# Altium integrated library Microchip Power Mgt MOSFET Driver.IntLib: 464 symbols (part 12 of 12)
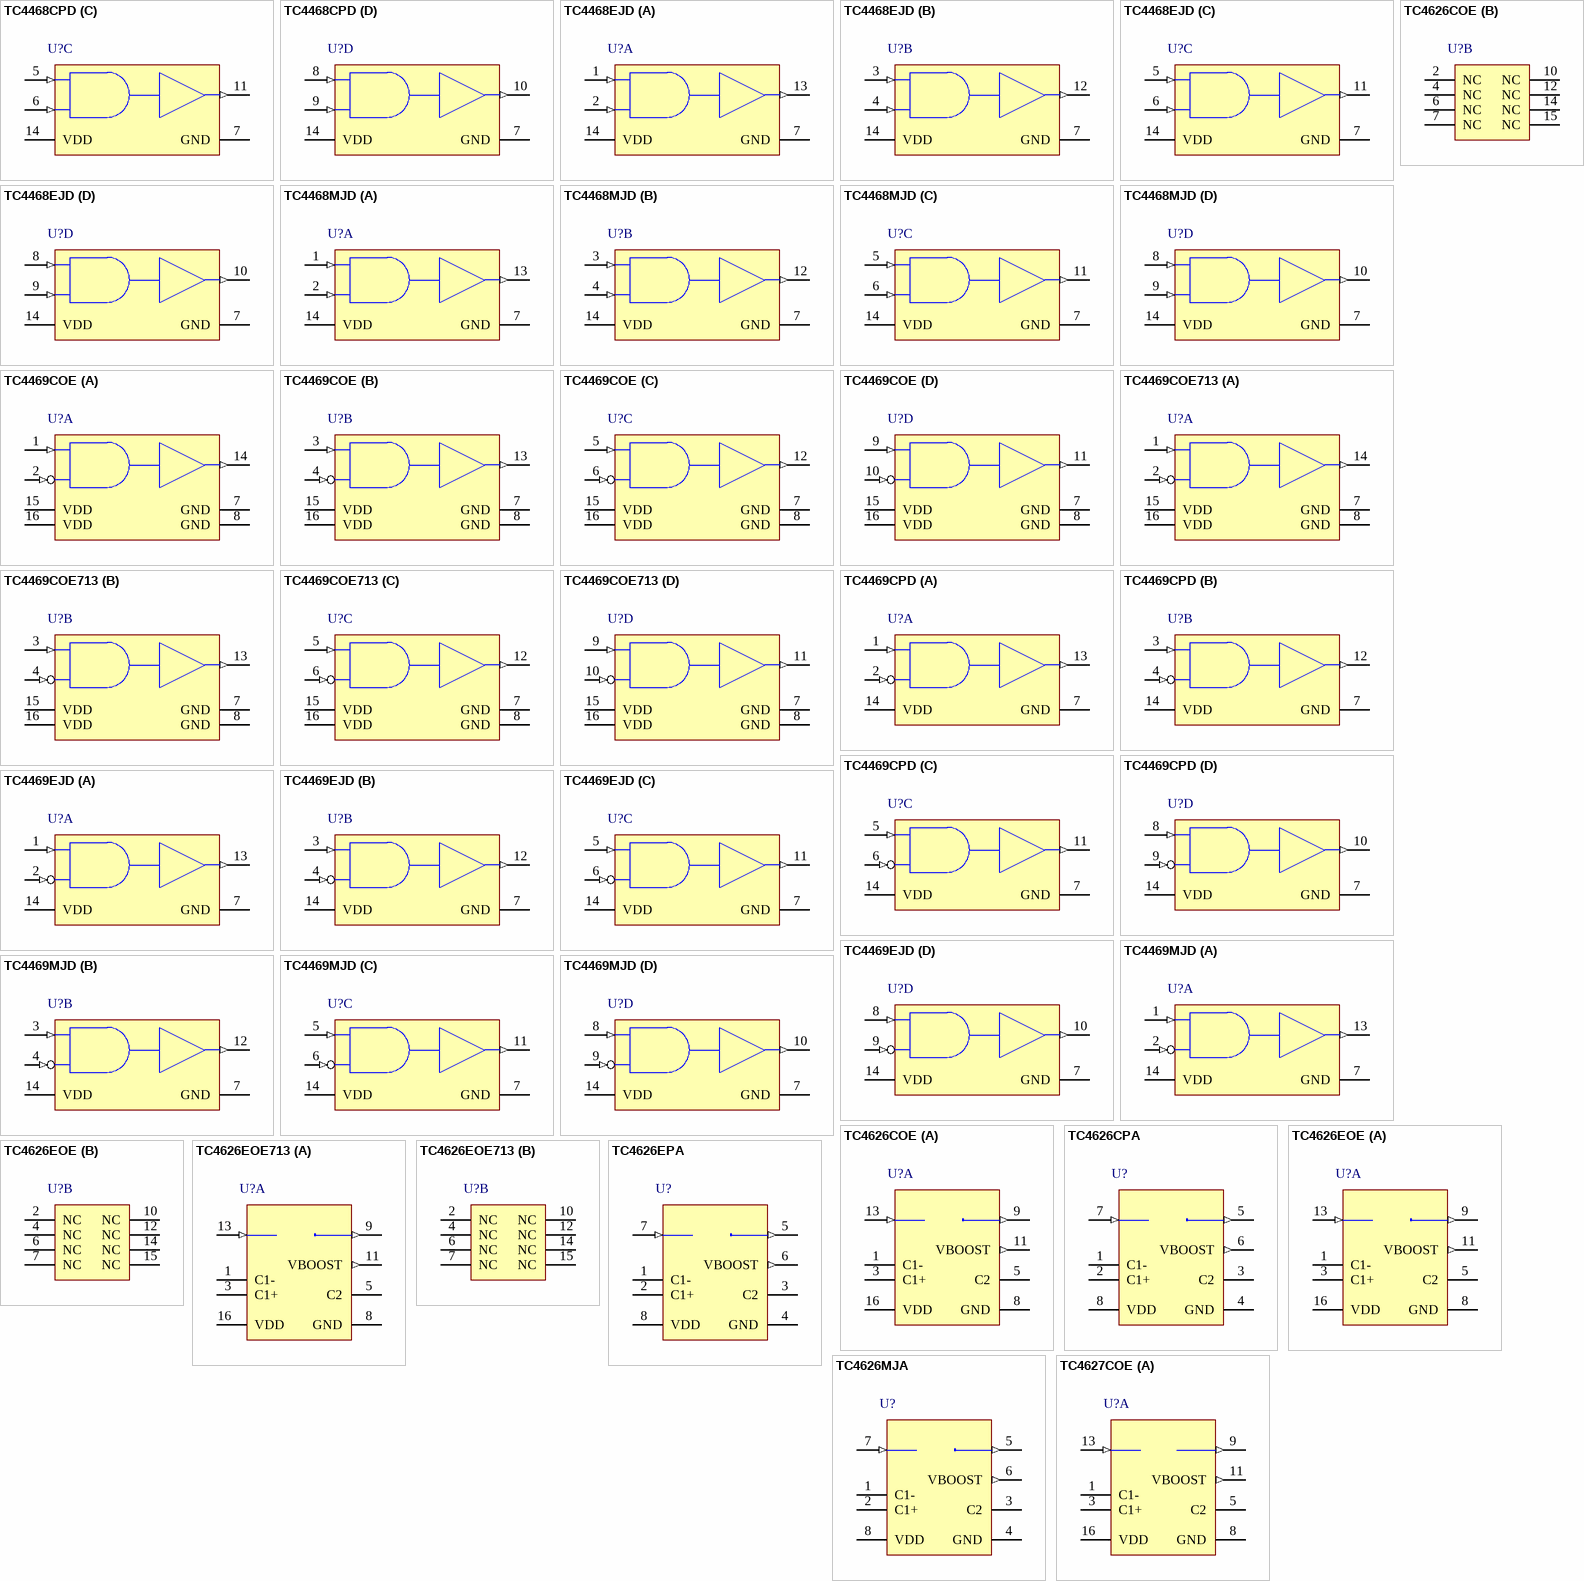
[diagram p36: symbols TC4468CPD to TC4627COE]

## TC4469COE713
designator U?
1.2A Quad MOSFET Driver, AND/INV, Commercial Temperature, Tape and Reel; Published: 29-Jan-2009; LatestRevisionDate: 01-Mar-2010; LatestRevisionNote: Sch Layout changed.; DatasheetVersion: revB, Feb-2003; PackageVersion: revBB, Aug-2009; PackageReference: SOIC-OE16; Publisher: Altium Limited; PackageDescription: 16-Lead Plastic Small Outline (OE) - Wide 7.50mm Body [SOIC]; Supplier 1: Digi-Key; Supplier Part Number 1: TC4469COE713TR-ND; Supplier 2: Digi-Key; Supplier Part Number 2: TC4469COE713CT-ND; Code_JEDEC: MS-013-AA; Code_IPC: SOIC127P1030-16; ComponentLink1Description: Datasheet; ComponentLink1URL: http://ww1.microchip.com/downloads/en/DeviceDoc/21425b.pdf; ComponentLink2Description: Packaging Specification; ComponentLink2URL: http://www.microchip.com/stellent/groups/techpub_sg/documents/packagingspec/en012702.pdf; ComponentLink3Description: Microchip.com Home; ComponentLink3URL: http://www.microchip.com/
footprint SOIC-OE16_N (SOIC, 16-Leads, Body 10.3x7.5mm, Pitch 1.27mm, IPC Medium Density)
footprint SOIC-OE16_L (SOIC, 16-Leads, Body 10.3x7.5mm, Pitch 1.27mm, IPC High Density)
footprint SOIC-OE16_M (SOIC, 16-Leads, Body 10.3x7.5mm, Pitch 1.27mm, IPC Low Density)
simulation model TC4469_I2D_A (SUBCKT)
pins on every part: 7 GND (power), 8 GND (power), 15 VDD (power), 16 VDD (power)
part A pins: 1 1A (in), 2 1B (in), 14 1Y (out)
part B pins: 3 2A (in), 4 2B (in), 13 2Y (out)
part C pins: 5 3A (in), 6 3B (in), 12 3Y (out)
part D pins: 9 4A (in), 10 4B (in), 11 4Y (out)

## TC4469CPD
designator U?
1.2A Quad MOSFET Driver, AND/INV, Commercial Temperature; Published: 29-Jan-2009; LatestRevisionDate: 01-Mar-2010; LatestRevisionNote: Sch Layout changed.; DatasheetVersion: revB, Feb-2003; PackageVersion: revBB, Aug-2009; PackageReference: PDIP300-PD14; Publisher: Altium Limited; PackageDescription: 14-Lead Plastic Dual In-Line (PD) - 300 mil Body [PDIP]; Supplier 1: Digi-Key; Supplier Part Number 1: TC4469CPD-ND; Supplier 2: Farnell; Supplier Part Number 2: 1439739; Code_JEDEC: MS-001-AA; ComponentLink1Description: Datasheet; ComponentLink1URL: http://ww1.microchip.com/downloads/en/DeviceDoc/21425b.pdf; ComponentLink2Description: Packaging Specification; ComponentLink2URL: http://www.microchip.com/stellent/groups/techpub_sg/documents/packagingspec/en012702.pdf; ComponentLink3Description: Microchip.com Home; ComponentLink3URL: http://www.microchip.com/
footprint PDIP300-PD14 (DIP, 14-Leads, Row Spacing 7.62mm, Pitch 2.54mm, Body 19.2x6.6mm)
simulation model TC4469_I2D_A (SUBCKT)
pins on every part: 7 GND (power), 14 VDD (power)
part A pins: 1 1A (in), 2 1B (in), 13 1Y (out)
part B pins: 3 2A (in), 4 2B (in), 12 2Y (out)
part C pins: 5 3A (in), 6 3B (in), 11 3Y (out)
part D pins: 8 4A (in), 9 4B (in), 10 4Y (out)

## TC4469EJD
designator U?
1.2A Quad MOSFET Driver, AND/INV, Industrial Temperature; Published: 29-Jan-2009; LatestRevisionDate: 01-Mar-2010; LatestRevisionNote: Sch Layout changed.; DatasheetVersion: revB, Feb-2003; PackageVersion: revBB, Aug-2009; PackageReference: CERDIP300-JD14; Publisher: Altium Limited; PackageDescription: 14-Lead Ceramic Dual In-Line (JD) - 300mil Body [CERDIP]; Supplier 1: Digi-Key; Supplier Part Number 1: TC4469EJD-ND; ComponentLink1Description: Datasheet; ComponentLink1URL: http://ww1.microchip.com/downloads/en/DeviceDoc/21425b.pdf; ComponentLink2Description: Packaging Specification; ComponentLink2URL: http://www.microchip.com/stellent/groups/techpub_sg/documents/packagingspec/en012702.pdf; ComponentLink3Description: Microchip.com Home; ComponentLink3URL: http://www.microchip.com/
footprint CERDIP300-JD14 (DIP, 14-Leads, Row Spacing 7.62mm, Pitch 2.54mm, Body 19.3x6.7mm)
simulation model TC4469_I2D_A (SUBCKT)
pins on every part: 7 GND (power), 14 VDD (power)
part A pins: 1 1A (in), 2 1B (in), 13 1Y (out)
part B pins: 3 2A (in), 4 2B (in), 12 2Y (out)
part C pins: 5 3A (in), 6 3B (in), 11 3Y (out)
part D pins: 8 4A (in), 9 4B (in), 10 4Y (out)

## TC4469MJD
designator U?
1.2A Quad MOSFET Driver, AND/INV, -55C to +125C Temperature; Published: 29-Jan-2009; LatestRevisionDate: 01-Mar-2010; LatestRevisionNote: Sch Layout changed.; DatasheetVersion: revB, Feb-2003; PackageVersion: revBB, Aug-2009; PackageReference: CERDIP300-JD14; Publisher: Altium Limited; PackageDescription: 14-Lead Ceramic Dual In-Line (JD) - 300mil Body [CERDIP]; Supplier 1: Digi-Key; Supplier Part Number 1: TC4469MJD-ND; ComponentLink1Description: Datasheet; ComponentLink1URL: http://ww1.microchip.com/downloads/en/DeviceDoc/21425b.pdf; ComponentLink2Description: Packaging Specification; ComponentLink2URL: http://www.microchip.com/stellent/groups/techpub_sg/documents/packagingspec/en012702.pdf; ComponentLink3Description: Microchip.com Home; ComponentLink3URL: http://www.microchip.com/
footprint CERDIP300-JD14 (DIP, 14-Leads, Row Spacing 7.62mm, Pitch 2.54mm, Body 19.3x6.7mm)
simulation model TC4469_I2D_A (SUBCKT)
pins on every part: 7 GND (power), 14 VDD (power)
part A pins: 1 1A (in), 2 1B (in), 13 1Y (out)
part B pins: 3 2A (in), 4 2B (in), 12 2Y (out)
part C pins: 5 3A (in), 6 3B (in), 11 3Y (out)
part D pins: 8 4A (in), 9 4B (in), 10 4Y (out)

## TC4626COE
designator U?
Power CMOS Drivers With Voltage Tripler, Inverting, Commercial Temperature; Published: 29-Jan-2009; DatasheetVersion: Feb-2003; PackageVersion: revBB, Aug-2009; PackageReference: SOIC-OE16; Publisher: Altium Limited; PackageDescription: 16-Lead Plastic Small Outline (OE) - Wide 7.50mm Body [SOIC]; Supplier 1: Digi-Key; Supplier Part Number 1: TC4626COE-ND; Code_JEDEC: MS-013-AA; Code_IPC: SOIC127P1030-16; ComponentLink1Description: Datasheet; ComponentLink1URL: http://ww1.microchip.com/downloads/en/DeviceDoc/21426b.pdf; ComponentLink2Description: Packaging Specification; ComponentLink2URL: http://www.microchip.com/stellent/groups/techpub_sg/documents/packagingspec/en012702.pdf; ComponentLink3Description: Microchip.com Home; ComponentLink3URL: http://www.microchip.com/
footprint SOIC-OE16_N (SOIC, 16-Leads, Body 10.3x7.5mm, Pitch 1.27mm, IPC Medium Density)
footprint SOIC-OE16_L (SOIC, 16-Leads, Body 10.3x7.5mm, Pitch 1.27mm, IPC High Density)
footprint SOIC-OE16_M (SOIC, 16-Leads, Body 10.3x7.5mm, Pitch 1.27mm, IPC Low Density)
part A pins: 1 C1-, 3 C1+, 5 C2, 8 GND (power), 9 ~{OUT} (out), 11 VBOOST (out), 13 IN (in), 16 VDD (power)
part B pins: 2 NC, 4 NC, 6 NC, 7 NC, 10 NC, 12 NC, 14 NC, 15 NC

## TC4626CPA
designator U?
Power CMOS Drivers With Voltage Tripler, Inverting, Commercial Temperature; Published: 29-Jan-2009; DatasheetVersion: Feb-2003; PackageVersion: revBB, Aug-2009; PackageReference: PDIP300-PA8; Publisher: Altium Limited; PackageDescription: 8-Lead Plastic Dual In-Line (PA) - 300 mil Body [PDIP]; Supplier 1: Digi-Key; Supplier Part Number 1: TC4626CPA-ND; Code_JEDEC: MS-001-BA; ComponentLink1Description: Datasheet; ComponentLink1URL: http://ww1.microchip.com/downloads/en/DeviceDoc/21426b.pdf; ComponentLink2Description: Packaging Specification; ComponentLink2URL: http://www.microchip.com/stellent/groups/techpub_sg/documents/packagingspec/en012702.pdf; ComponentLink3Description: Microchip.com Home; ComponentLink3URL: http://www.microchip.com/
footprint PDIP300-PA8 (DIP, 8-Leads, Row Spacing 7.62mm, Pitch 2.54mm, Body 9.5x6.6mm)
pins: 1 C1-, 2 C1+, 3 C2, 4 GND (power), 5 ~{OUT} (out), 6 VBOOST (out), 7 IN (in), 8 VDD (power)

## TC4626EOE
designator U?
Power CMOS Drivers With Voltage Tripler, Inverting, Industrial Temperature; Published: 29-Jan-2009; DatasheetVersion: Feb-2003; PackageVersion: revBB, Aug-2009; PackageReference: SOIC-OE16; Publisher: Altium Limited; PackageDescription: 16-Lead Plastic Small Outline (OE) - Wide 7.50mm Body [SOIC]; Supplier 1: Digi-Key; Supplier Part Number 1: TC4626EOE-ND; Code_JEDEC: MS-013-AA; Code_IPC: SOIC127P1030-16; ComponentLink1Description: Datasheet; ComponentLink1URL: http://ww1.microchip.com/downloads/en/DeviceDoc/21426b.pdf; ComponentLink2Description: Packaging Specification; ComponentLink2URL: http://www.microchip.com/stellent/groups/techpub_sg/documents/packagingspec/en012702.pdf; ComponentLink3Description: Microchip.com Home; ComponentLink3URL: http://www.microchip.com/
footprint SOIC-OE16_N (SOIC, 16-Leads, Body 10.3x7.5mm, Pitch 1.27mm, IPC Medium Density)
footprint SOIC-OE16_L (SOIC, 16-Leads, Body 10.3x7.5mm, Pitch 1.27mm, IPC High Density)
footprint SOIC-OE16_M (SOIC, 16-Leads, Body 10.3x7.5mm, Pitch 1.27mm, IPC Low Density)
part A pins: 1 C1-, 3 C1+, 5 C2, 8 GND (power), 9 ~{OUT} (out), 11 VBOOST (out), 13 IN (in), 16 VDD (power)
part B pins: 2 NC, 4 NC, 6 NC, 7 NC, 10 NC, 12 NC, 14 NC, 15 NC

## TC4626EOE713
designator U?
Power CMOS Drivers With Voltage Tripler, Inverting, Industrial Temperature, Tape and Reel; Published: 2-Dec-2009; DatasheetVersion: Feb-2003; PackageVersion: revBB, Aug-2009; PackageReference: SOIC-OE16; Publisher: Altium Limited; PackageDescription: 16-Lead Plastic Small Outline (OE) - Wide 7.50mm Body [SOIC]; Supplier 1: Digi-Key; Supplier Part Number 1: TC4626EOE713-ND; Code_JEDEC: MS-013-AA; Code_IPC: SOIC127P1030-16; ComponentLink1Description: Datasheet; ComponentLink1URL: http://ww1.microchip.com/downloads/en/DeviceDoc/21426b.pdf; ComponentLink2Description: Packaging Specification; ComponentLink2URL: http://www.microchip.com/stellent/groups/techpub_sg/documents/packagingspec/en012702.pdf; ComponentLink3Description: Microchip.com Home; ComponentLink3URL: http://www.microchip.com/
footprint SOIC-OE16_N (SOIC, 16-Leads, Body 10.3x7.5mm, Pitch 1.27mm, IPC Medium Density)
footprint SOIC-OE16_L (SOIC, 16-Leads, Body 10.3x7.5mm, Pitch 1.27mm, IPC High Density)
footprint SOIC-OE16_M (SOIC, 16-Leads, Body 10.3x7.5mm, Pitch 1.27mm, IPC Low Density)
part A pins: 1 C1-, 3 C1+, 5 C2, 8 GND (power), 9 ~{OUT} (out), 11 VBOOST (out), 13 IN (in), 16 VDD (power)
part B pins: 2 NC, 4 NC, 6 NC, 7 NC, 10 NC, 12 NC, 14 NC, 15 NC

## TC4626EPA
designator U?
Power CMOS Drivers With Voltage Tripler, Inverting, Industrial Temperature; Published: 29-Jan-2009; DatasheetVersion: Feb-2003; PackageVersion: revBB, Aug-2009; PackageReference: PDIP300-PA8; Publisher: Altium Limited; PackageDescription: 8-Lead Plastic Dual In-Line (PA) - 300 mil Body [PDIP]; Supplier 1: Digi-Key; Supplier Part Number 1: TC4626EPA-ND; Code_JEDEC: MS-001-BA; ComponentLink1Description: Datasheet; ComponentLink1URL: http://ww1.microchip.com/downloads/en/DeviceDoc/21426b.pdf; ComponentLink2Description: Packaging Specification; ComponentLink2URL: http://www.microchip.com/stellent/groups/techpub_sg/documents/packagingspec/en012702.pdf; ComponentLink3Description: Microchip.com Home; ComponentLink3URL: http://www.microchip.com/
footprint PDIP300-PA8 (DIP, 8-Leads, Row Spacing 7.62mm, Pitch 2.54mm, Body 9.5x6.6mm)
pins: 1 C1-, 2 C1+, 3 C2, 4 GND (power), 5 ~{OUT} (out), 6 VBOOST (out), 7 IN (in), 8 VDD (power)

## TC4626MJA
designator U?
Power CMOS Drivers With Voltage Tripler, Inverting, -55C to +125C Temperature; ComponentAvailability: Unknown. Contact manufacturer to determine status.; Published: 29-Jan-2009; DatasheetVersion: Feb-2003; PackageVersion: revBB, Aug-2009; PackageReference: CERDIP300-JA8; Publisher: Altium Limited; PackageDescription: 8-Lead Ceramic Dual In-Line (JA) - 300mil Body [CERDIP]; Supplier 1: Digi-Key; Supplier Part Number 1: TC4626MJA-ND; ComponentLink1Description: Datasheet; ComponentLink1URL: http://ww1.microchip.com/downloads/en/DeviceDoc/21426b.pdf; ComponentLink2Description: Packaging Specification; ComponentLink2URL: http://www.microchip.com/stellent/groups/techpub_sg/documents/packagingspec/en012702.pdf; ComponentLink3Description: Microchip.com Home; ComponentLink3URL: http://www.microchip.com/
footprint CERDIP300-JA8 (DIP, 8-Leads, Row Spacing 7.62mm, Pitch 2.54mm, Body 9.8x6.7mm)
pins: 1 C1-, 2 C1+, 3 C2, 4 GND (power), 5 ~{OUT} (out), 6 VBOOST (out), 7 IN (in), 8 VDD (power)

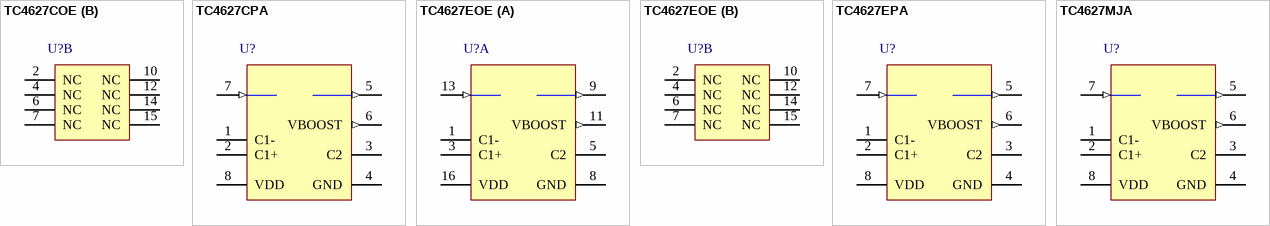
[diagram p25: symbols TC4627COE to TC4627MJA]

## TC4627COE
designator U?
Power CMOS Drivers With Voltage Tripler, Non Inverting, Commercial Temperature; Published: 29-Jan-2009; DatasheetVersion: Feb-2003; PackageVersion: revBB, Aug-2009; PackageReference: SOIC-OE16; Publisher: Altium Limited; PackageDescription: 16-Lead Plastic Small Outline (OE) - Wide 7.50mm Body [SOIC]; Supplier 1: Digi-Key; Supplier Part Number 1: TC4627COE-ND; Code_JEDEC: MS-013-AA; Code_IPC: SOIC127P1030-16; ComponentLink1Description: Datasheet; ComponentLink1URL: http://ww1.microchip.com/downloads/en/DeviceDoc/21426b.pdf; ComponentLink2Description: Packaging Specification; ComponentLink2URL: http://www.microchip.com/stellent/groups/techpub_sg/documents/packagingspec/en012702.pdf; ComponentLink3Description: Microchip.com Home; ComponentLink3URL: http://www.microchip.com/
footprint SOIC-OE16_N (SOIC, 16-Leads, Body 10.3x7.5mm, Pitch 1.27mm, IPC Medium Density)
footprint SOIC-OE16_L (SOIC, 16-Leads, Body 10.3x7.5mm, Pitch 1.27mm, IPC High Density)
footprint SOIC-OE16_M (SOIC, 16-Leads, Body 10.3x7.5mm, Pitch 1.27mm, IPC Low Density)
part A pins: 1 C1-, 3 C1+, 5 C2, 8 GND (power), 9 OUT (out), 11 VBOOST (out), 13 IN (in), 16 VDD (power)
part B pins: 2 NC, 4 NC, 6 NC, 7 NC, 10 NC, 12 NC, 14 NC, 15 NC

## TC4627CPA
designator U?
Power CMOS Drivers With Voltage Tripler, Non Inverting, Commercial Temperature; Published: 29-Jan-2009; DatasheetVersion: Feb-2003; PackageVersion: revBB, Aug-2009; PackageReference: PDIP300-PA8; Publisher: Altium Limited; PackageDescription: 8-Lead Plastic Dual In-Line (PA) - 300 mil Body [PDIP]; Supplier 1: Digi-Key; Supplier Part Number 1: TC4627CPA-ND; Code_JEDEC: MS-001-BA; ComponentLink1Description: Datasheet; ComponentLink1URL: http://ww1.microchip.com/downloads/en/DeviceDoc/21426b.pdf; ComponentLink2Description: Packaging Specification; ComponentLink2URL: http://www.microchip.com/stellent/groups/techpub_sg/documents/packagingspec/en012702.pdf; ComponentLink3Description: Microchip.com Home; ComponentLink3URL: http://www.microchip.com/
footprint PDIP300-PA8 (DIP, 8-Leads, Row Spacing 7.62mm, Pitch 2.54mm, Body 9.5x6.6mm)
pins: 1 C1-, 2 C1+, 3 C2, 4 GND (power), 5 OUT (out), 6 VBOOST (out), 7 IN (in), 8 VDD (power)

## TC4627EOE
designator U?
Power CMOS Drivers With Voltage Tripler, Non Inverting, Industrial Temperature; Published: 29-Jan-2009; DatasheetVersion: Feb-2003; PackageVersion: revBB, Aug-2009; PackageReference: SOIC-OE16; Publisher: Altium Limited; PackageDescription: 16-Lead Plastic Small Outline (OE) - Wide 7.50mm Body [SOIC]; Supplier 1: Digi-Key; Supplier Part Number 1: TC4627EOE-ND; Code_JEDEC: MS-013-AA; Code_IPC: SOIC127P1030-16; ComponentLink1Description: Datasheet; ComponentLink1URL: http://ww1.microchip.com/downloads/en/DeviceDoc/21426b.pdf; ComponentLink2Description: Packaging Specification; ComponentLink2URL: http://www.microchip.com/stellent/groups/techpub_sg/documents/packagingspec/en012702.pdf; ComponentLink3Description: Microchip.com Home; ComponentLink3URL: http://www.microchip.com/
footprint SOIC-OE16_N (SOIC, 16-Leads, Body 10.3x7.5mm, Pitch 1.27mm, IPC Medium Density)
footprint SOIC-OE16_L (SOIC, 16-Leads, Body 10.3x7.5mm, Pitch 1.27mm, IPC High Density)
footprint SOIC-OE16_M (SOIC, 16-Leads, Body 10.3x7.5mm, Pitch 1.27mm, IPC Low Density)
part A pins: 1 C1-, 3 C1+, 5 C2, 8 GND (power), 9 OUT (out), 11 VBOOST (out), 13 IN (in), 16 VDD (power)
part B pins: 2 NC, 4 NC, 6 NC, 7 NC, 10 NC, 12 NC, 14 NC, 15 NC

## TC4627EPA
designator U?
Power CMOS Drivers With Voltage Tripler, Non Inverting, Industrial Temperature; Published: 29-Jan-2009; DatasheetVersion: Feb-2003; PackageVersion: revBB, Aug-2009; PackageReference: PDIP300-PA8; Publisher: Altium Limited; PackageDescription: 8-Lead Plastic Dual In-Line (PA) - 300 mil Body [PDIP]; Supplier 1: Digi-Key; Supplier Part Number 1: TC4627EPA-ND; Code_JEDEC: MS-001-BA; ComponentLink1Description: Datasheet; ComponentLink1URL: http://ww1.microchip.com/downloads/en/DeviceDoc/21426b.pdf; ComponentLink2Description: Packaging Specification; ComponentLink2URL: http://www.microchip.com/stellent/groups/techpub_sg/documents/packagingspec/en012702.pdf; ComponentLink3Description: Microchip.com Home; ComponentLink3URL: http://www.microchip.com/
footprint PDIP300-PA8 (DIP, 8-Leads, Row Spacing 7.62mm, Pitch 2.54mm, Body 9.5x6.6mm)
pins: 1 C1-, 2 C1+, 3 C2, 4 GND (power), 5 OUT (out), 6 VBOOST (out), 7 IN (in), 8 VDD (power)

## TC4627MJA
designator U?
Power CMOS Drivers With Voltage Tripler, Non Inverting, -55C to +125C Temperature; Published: 29-Jan-2009; DatasheetVersion: Feb-2003; PackageVersion: revBB, Aug-2009; PackageReference: CERDIP300-JA8; Publisher: Altium Limited; PackageDescription: 8-Lead Ceramic Dual In-Line (JA) - 300mil Body [CERDIP]; Supplier 1: Digi-Key; Supplier Part Number 1: TC4627MJA-ND; ComponentLink1Description: Datasheet; ComponentLink1URL: http://ww1.microchip.com/downloads/en/DeviceDoc/21426b.pdf; ComponentLink2Description: Packaging Specification; ComponentLink2URL: http://www.microchip.com/stellent/groups/techpub_sg/documents/packagingspec/en012702.pdf; ComponentLink3Description: Microchip.com Home; ComponentLink3URL: http://www.microchip.com/
footprint CERDIP300-JA8 (DIP, 8-Leads, Row Spacing 7.62mm, Pitch 2.54mm, Body 9.8x6.7mm)
pins: 1 C1-, 2 C1+, 3 C2, 4 GND (power), 5 OUT (out), 6 VBOOST (out), 7 IN (in), 8 VDD (power)